# Altium schematic symbol library IDlab.SchLib: 1 symbol
Pins are listed as number, name and electrical type; pins without a type are passive.

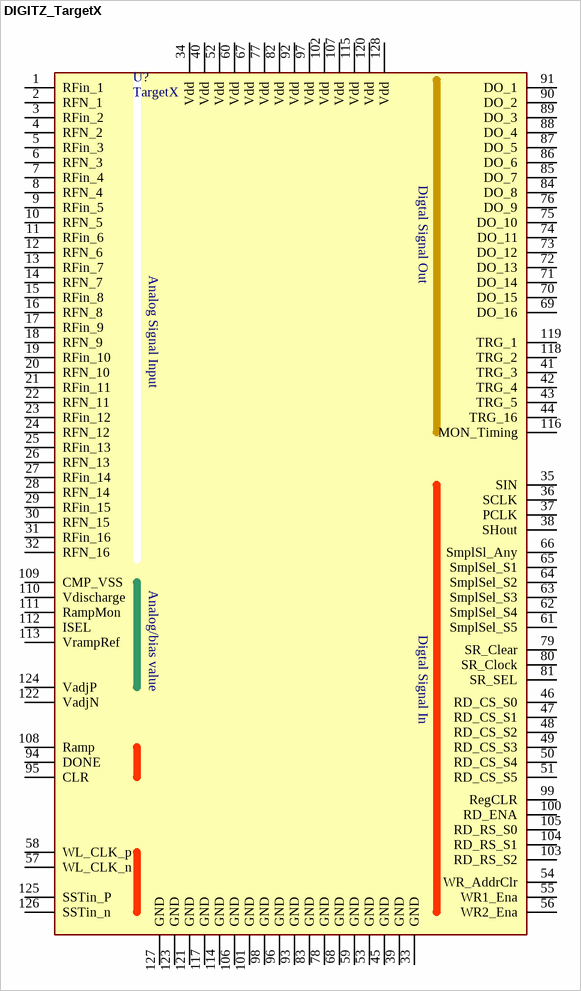
[diagram p0: symbol DIGITZ_TargetX]

## DIGITZ_TargetX
designator U?, comment TargetX
16-channel, 1GSPS Transient Waveform Recorder; Manufacturer: UHM_IDL; Tech: SMDR; Manufacturer No: TargetX; Package: TQFP128; Supplier 1: UHM_IDL; Supplier Part Number 1: TargetX; Supplier Order Qty 1: 1; Supplier Unit Price 1: 0
footprint TQFP128_MZA
pins: 1 RFin_1, 2 RFN_1, 3 RFin_2, 4 RFN_2, 5 RFin_3, 6 RFN_3, 7 RFin_4, 8 RFN_4, 9 RFin_5, 10 RFN_5, 11 RFin_6, 12 RFN_6, 13 RFin_7, 14 RFN_7, 15 RFin_8, 16 RFN_8, 17 RFin_9, 18 RFN_9, 19 RFin_10, 20 RFN_10, 21 RFin_11, 22 RFN_11, 23 RFin_12, 24 RFN_12, 25 RFin_13, 26 RFN_13, 27 RFin_14, 28 RFN_14, 29 RFin_15, 30 RFN_15, 31 RFin_16, 32 RFN_16, 33 GND, 34 Vdd, 35 SIN, 36 SCLK, 37 PCLK, 38 SHout, 39 GND, 40 Vdd, 41 TRG_3, 42 TRG_4, 43 TRG_5, 44 TRG_16, 45 GND, 46 RD_CS_S0, 47 RD_CS_S1, 48 RD_CS_S2, 49 RD_CS_S3, 50 RD_CS_S4, 51 RD_CS_S5, 52 Vdd, 53 GND, 54 WR_AddrClr, 55 WR1_Ena, 56 WR2_Ena, 57 WL_CLK_n, 58 WL_CLK_p, 59 GND, 60 Vdd, 61 SmplSel_S5, 62 SmplSel_S4, 63 SmplSel_S3, 64 SmplSel_S2, 65 SmplSel_S1, 66 SmplSl_Any, 67 Vdd, 68 GND, 69 DO_16, 70 DO_15, 71 DO_14, 72 DO_13, 73 DO_12, 74 DO_11, 75 DO_10, 76 DO_9, 77 Vdd, 78 GND, 79 SR_Clear, 80 SR_Clock, 81 SR_SEL, 82 Vdd, 83 GND, 84 DO_8, 85 DO_7, 86 DO_6, 87 DO_5, 88 DO_4, 89 DO_3, 90 DO_2, 91 DO_1, 92 Vdd, 93 GND, 94 DONE, 95 CLR, 96 GND, 97 Vdd, 98 GND, 99 RegCLR, 100 RD_ENA, 101 GND, 102 Vdd, 103 RD_RS_S2, 104 RD_RS_S1, 105 RD_RS_S0, 106 GND, 107 Vdd, 108 Ramp, 109 CMP_VSS, 110 Vdischarge, 111 RampMon, 112 ISEL, 113 VrampRef, 114 GND, 115 Vdd, 116 MON_Timing, 117 GND, 118 TRG_2, 119 TRG_1, 120 Vdd, 121 GND, 122 VadjN, 123 GND, 124 VadjP, 125 SSTin_P, 126 SSTin_n, 127 GND, 128 Vdd
text: Digtal Signal Out; Analog Signal Input; Analog/bias value; Digtal Signal In